# EAGLE library part STM32H743Z (library STM32H7)
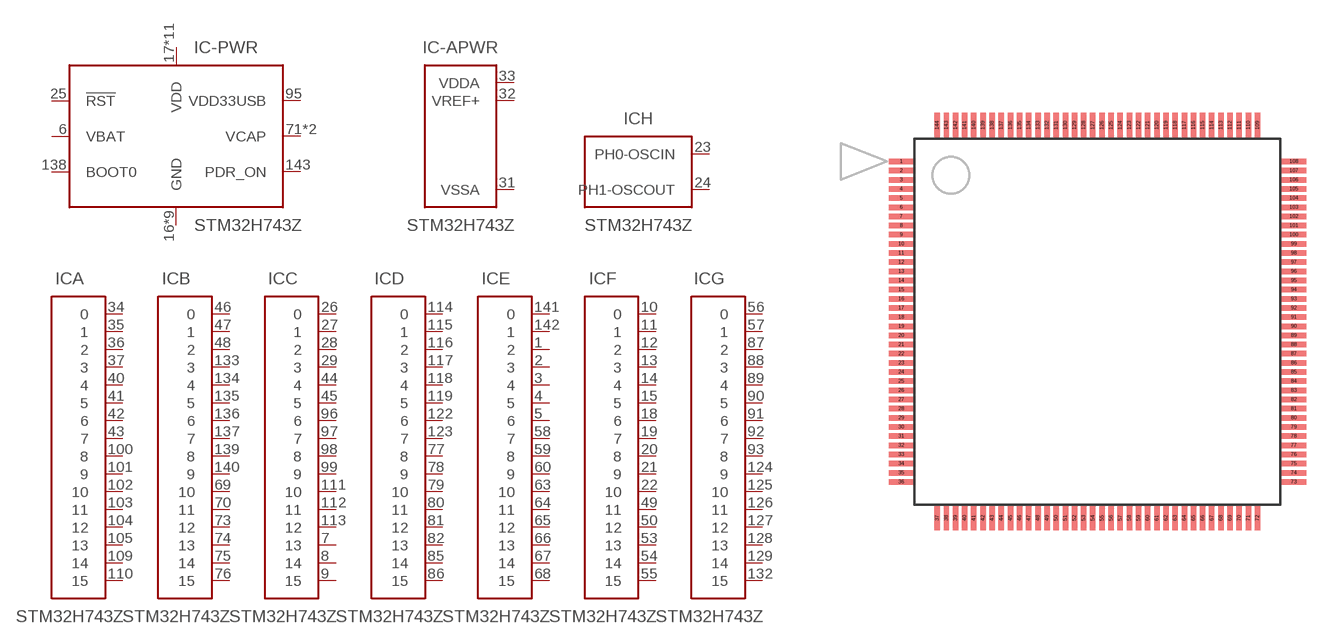
[diagram p0: symbol with the pads of LQFP144; footprint LQFP144]

Designator prefix IC; gates -APWR=STM32H7-APWR_144 -PWR=STM32H7-PWR H=PH_OSC_144 A=PORT B=PORT C=PORT D=PORT E=PORT F=PORT G=PORT

## STM32H743ZGT6 (MF: ST; MPN: STM32H743ZGT6), STM32H743ZIT6 (MF: ST; MPN: STM32H743ZIT6)  [LQFP144]
1  E:2
2  E:3
3  E:4
4  E:5
5  E:6
6  -PWR:VBAT
7  C:13
8  C:14
9  C:15
10  F:0
11  F:1
12  F:2
13  F:3
14  F:4
15  F:5
16  -PWR:GND
17  -PWR:VDD
18  F:6
19  F:7
20  F:8
21  F:9
22  F:10
23  H:PH0-OSCIN
24  H:PH1-OSCOUT
25  -PWR:!RST
26  C:0
27  C:1
28  C:2
29  C:3
30  -PWR:VDD
31  -APWR:VSSA
32  -APWR:VREF+
33  -APWR:VDDA
34  A:0
35  A:1
36  A:2
37  A:3
38  -PWR:GND
39  -PWR:VDD
40  A:4
41  A:5
42  A:6
43  A:7
44  C:4
45  C:5
46  B:0
47  B:1
48  B:2
49  F:11
50  F:12
51  -PWR:GND
52  -PWR:VDD
53  F:13
54  F:14
55  F:15
56  G:0
57  G:1
58  E:7
59  E:8
60  E:9
61  -PWR:GND
62  -PWR:VDD
63  E:10
64  E:11
65  E:12
66  E:13
67  E:14
68  E:15
69  B:10
70  B:11
71  -PWR:VCAP
72  -PWR:VDD
73  B:12
74  B:13
75  B:14
76  B:15
77  D:8
78  D:9
79  D:10
80  D:11
81  D:12
82  D:13
83  -PWR:GND
84  -PWR:VDD
85  D:14
86  D:15
87  G:2
88  G:3
89  G:4
90  G:5
91  G:6
92  G:7
93  G:8
94  -PWR:GND
95  -PWR:VDD33USB
96  C:6
97  C:7
98  C:8
99  C:9
100  A:8
101  A:9
102  A:10
103  A:11
104  A:12
105  A:13
106  -PWR:VCAP
107  -PWR:GND
108  -PWR:VDD
109  A:14
110  A:15
111  C:10
112  C:11
113  C:12
114  D:0
115  D:1
116  D:2
117  D:3
118  D:4
119  D:5
120  -PWR:GND
121  -PWR:VDD
122  D:6
123  D:7
124  G:9
125  G:10
126  G:11
127  G:12
128  G:13
129  G:14
130  -PWR:GND
131  -PWR:VDD
132  G:15
133  B:3
134  B:4
135  B:5
136  B:6
137  B:7
138  -PWR:BOOT0
139  B:8
140  B:9
141  E:0
142  E:1
143  -PWR:PDR_ON
144  -PWR:VDD

## Footprint LQFP144 (pad centres in mm)
smd 1.35 x 0.3: 1 -10.725,8.75; 2 -10.725,8.25; 3 -10.725,7.75; 4 -10.725,7.25; 5 -10.725,6.75; 6 -10.725,6.25; 7 -10.725,5.75; 8 -10.725,5.25; 9 -10.725,4.75; 10 -10.725,4.25; 11 -10.725,3.75; 12 -10.725,3.25; 13 -10.725,2.75; 14 -10.725,2.25; 15 -10.725,1.75; 16 -10.725,1.25; 17 -10.725,0.75; 18 -10.725,0.25; 19 -10.725,-0.25; 20 -10.725,-0.75; 21 -10.725,-1.25; 22 -10.725,-1.75; 23 -10.725,-2.25; 24 -10.725,-2.75; 25 -10.725,-3.25; 26 -10.725,-3.75; 27 -10.725,-4.25; 28 -10.725,-4.75; 29 -10.725,-5.25; 30 -10.725,-5.75; 31 -10.725,-6.25; 32 -10.725,-6.75; 33 -10.725,-7.25; 34 -10.725,-7.75; 35 -10.725,-8.25; 36 -10.725,-8.75; 73 10.725,-8.75; 74 10.725,-8.25; 75 10.725,-7.75; 76 10.725,-7.25; 77 10.725,-6.75; 78 10.725,-6.25; 79 10.725,-5.75; 80 10.725,-5.25; 81 10.725,-4.75; 82 10.725,-4.25; 83 10.725,-3.75; 84 10.725,-3.25; 85 10.725,-2.75; 86 10.725,-2.25; 87 10.725,-1.75; 88 10.725,-1.25; 89 10.725,-0.75; 90 10.725,-0.25; 91 10.725,0.25; 92 10.725,0.75; 93 10.725,1.25; 94 10.725,1.75; 95 10.725,2.25; 96 10.725,2.75; 97 10.725,3.25; 98 10.725,3.75; 99 10.725,4.25; 100 10.725,4.75; 101 10.725,5.25; 102 10.725,5.75; 103 10.725,6.25; 104 10.725,6.75; 105 10.725,7.25; 106 10.725,7.75; 107 10.725,8.25; 108 10.725,8.75
smd 0.3 x 1.35: 37 -8.75,-10.725; 38 -8.25,-10.725; 39 -7.75,-10.725; 40 -7.25,-10.725; 41 -6.75,-10.725; 42 -6.25,-10.725; 43 -5.75,-10.725; 44 -5.25,-10.725; 45 -4.75,-10.725; 46 -4.25,-10.725; 47 -3.75,-10.725; 48 -3.25,-10.725; 49 -2.75,-10.725; 50 -2.25,-10.725; 51 -1.75,-10.725; 52 -1.25,-10.725; 53 -0.75,-10.725; 54 -0.25,-10.725; 55 0.25,-10.725; 56 0.75,-10.725; 57 1.25,-10.725; 58 1.75,-10.725; 59 2.25,-10.725; 60 2.75,-10.725; 61 3.25,-10.725; 62 3.75,-10.725; 63 4.25,-10.725; 64 4.75,-10.725; 65 5.25,-10.725; 66 5.75,-10.725; 67 6.25,-10.725; 68 6.75,-10.725; 69 7.25,-10.725; 70 7.75,-10.725; 71 8.25,-10.725; 72 8.75,-10.725; 109 8.75,10.725; 110 8.25,10.725; 111 7.75,10.725; 112 7.25,10.725; 113 6.75,10.725; 114 6.25,10.725; 115 5.75,10.725; 116 5.25,10.725; 117 4.75,10.725; 118 4.25,10.725; 119 3.75,10.725; 120 3.25,10.725; 121 2.75,10.725; 122 2.25,10.725; 123 1.75,10.725; 124 1.25,10.725; 125 0.75,10.725; 126 0.25,10.725; 127 -0.25,10.725; 128 -0.75,10.725; 129 -1.25,10.725; 130 -1.75,10.725; 131 -2.25,10.725; 132 -2.75,10.725; 133 -3.25,10.725; 134 -3.75,10.725; 135 -4.25,10.725; 136 -4.75,10.725; 137 -5.25,10.725; 138 -5.75,10.725; 139 -6.25,10.725; 140 -6.75,10.725; 141 -7.25,10.725; 142 -7.75,10.725; 143 -8.25,10.725; 144 -8.75,10.725